# EAGLE library part SN74LVC1G175 (library ICs)
Flip-Flop, Non Inverted, Positive Edge, D, 3 ns, 175 MHz, 32 mA, SOT-23, 6 Pins
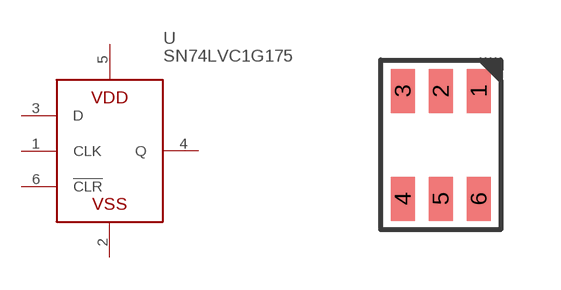
[diagram p132: symbol with the pads of SOT23-6; footprint SOT23-6]

Designator prefix U

## SN74LVC1G175DBVR (DIGIKEY: 296-17617-1-ND; HEIGHT: 1.5; PRICE_PER: 0.3; VALUE: SN74LVC1G175)  [SOT23-6]
1  CLK
2  VSS
3  D
4  Q
5  VDD
6  !CLR

## Footprint SOT23-6 (pad centres in mm)
smd 0.6 x 1.1: 1 0.95,1.35; 2 0,1.35; 3 -0.95,1.35; 4 -0.95,-1.35; 5 0,-1.35; 6 0.95,-1.35